# Altium schematic symbol library TPS2115APWR.SchLib: 1 symbol
Pins are listed as number, name and electrical type; pins without a type are passive.

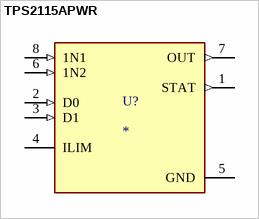
[diagram p0: symbol TPS2115APWR]

## TPS2115APWR
designator U?
2.8-5.5-V, 84-m?, 1.25-A, power mux with manual, automatic switchover and status output 8-TSSOP -40 to 85; MP: TPS2115APWR; Package: None; Availability: Unavailable; Price: None; Value: *
footprint SOP65P640X120-8N
pins: 1 STAT (out), 2 D0 (in), 3 D1 (in), 4 ILIM, 5 GND (power), 6 1N2 (in), 7 OUT (out), 8 1N1 (in)